# EAGLE library part CONV_LOG (library Conv_logique_SparkFun)
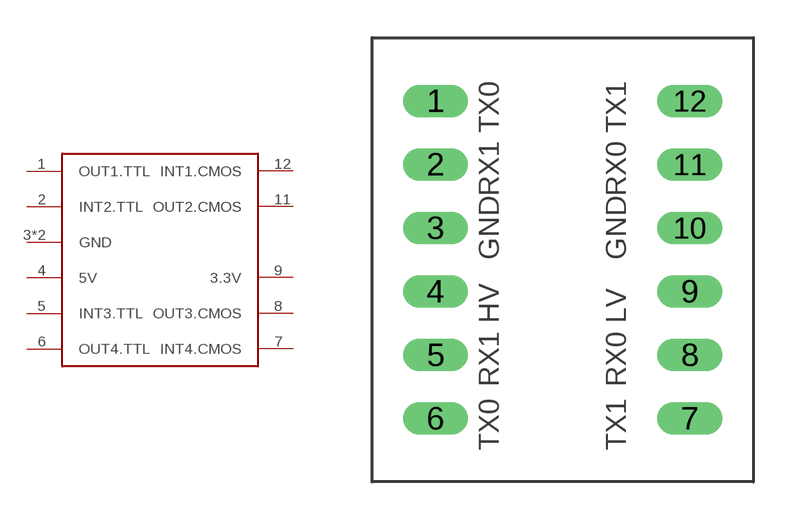
[diagram p0: symbol with the pads of CONV_LOG; footprint CONV_LOG]

Designator prefix -

## CONV_LOG  [CONV_LOG]
1  OUT1.TTL
2  INT2.TTL
3  GND
4  5V
5  INT3.TTL
6  OUT4.TTL
7  INT4.CMOS
8  OUT3.CMOS
9  3.3V
10  GND
11  OUT2.CMOS
12  INT1.CMOS

## Footprint CONV_LOG (pad centres in mm)
drill 0.8 long: 1 0,5.08; 2 0,2.54; 3 0,0; 4 0,-2.54; 5 0,-5.08; 6 0,-7.62; 7 10.16,-7.62; 8 10.16,-5.08; 9 10.16,-2.54; 10 10.16,0; 11 10.16,2.54; 12 10.16,5.08